# Altium integrated library 8pathNPF.IntLib: 1 symbol
Pins are listed as number, name and electrical type; pins without a type are passive.

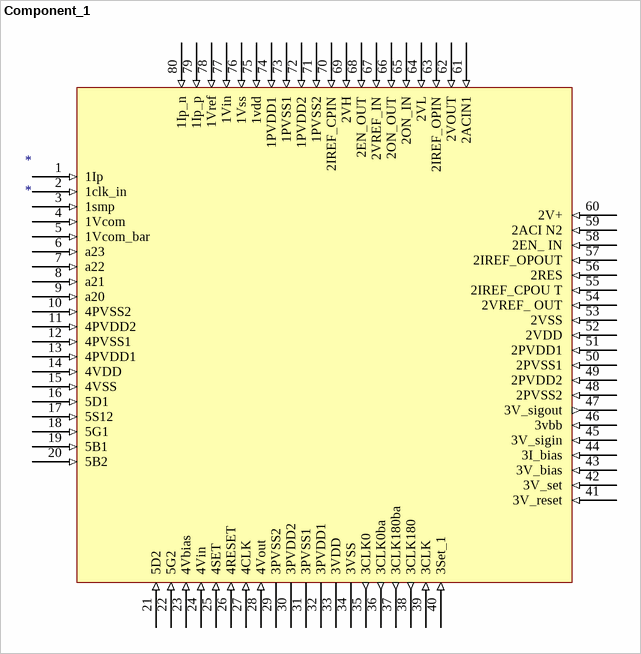
[diagram p0: symbol Component_1]

## Component_1
designator *
footprint LCCS50P1200X1200X85-80N (LCC, 80-Pins, Body 12.00x12.00mmx0.85mm, Pitch 0.50mm, IPC Medium Density)
pins: 1 1Ip (in), 2 1clk_in (in), 3 1smp (in), 4 1Vcom (in), 5 1Vcom_bar (in), 6 a23 (in), 7 a22 (in), 8 a21 (in), 9 a20 (in), 10 4PVSS2 (in), 11 4PVDD2 (in), 12 4PVSS1 (in), 13 4PVDD1 (in), 14 4VDD (in), 15 4VSS (in), 16 5D1 (in), 17 5S12 (in), 18 5G1 (in), 19 5B1 (in), 20 5B2 (in), 21 5D2 (in), 22 5G2 (in), 23 4Vbias (in), 24 4Vin (in), 25 4SET (in), 26 4RESET (in), 27 4CLK (in), 28 4Vout (in), 29 3PVSS2 (power), 30 3PVDD2 (power), 31 3PVSS1 (power), 32 3PVDD1 (power), 33 3VDD (power), 34 3VSS (power), 35 3CLK0 (out), 36 3CLK0ba (out), 37 3CLK180ba (out), 38 3CLK180 (out), 39 3CLK (in), 40 3Set_1 (in), 41 3V_reset (in), 42 3V_set (in), 43 3V_bias (in), 44 3I_bias (in), 45 3V_sigin (in), 46 3vbb (in), 47 3V_sigout (out), 48 2PVSS2 (in), 49 2PVDD2 (in), 50 2PVSS1 (in), 51 2PVDD1 (in), 52 2VDD (in), 53 2VSS (in), 54 2VREF_ OUT (in), 55 2IREF_CPOU T (in), 56 2RES (in), 57 2IREF_OPOUT (in), 58 2EN_ IN (in), 59 2ACI N2 (in), 60 2V+ (in), 61 2ACIN1 (in), 62 2VOUT (in), 63 2IREF_OPIN (in), 64 2VL (in), 65 2ON_IN (in), 66 2ON_OUT (in), 67 2VREF_IN (in), 68 2EN_OUT (in), 69 2VH (in), 70 2IREF_CPIN (in), 71 1PVSS2 (in), 72 1PVDD2 (in), 73 1PVSS1 (in), 74 1PVDD1 (in), 75 1vdd (in), 76 1Vss (in), 77 1Vin (in), 78 1Vref (in), 79 1Ip_p (in), 80 1Ip_n (in)